# Altium schematic symbol library SCH - CONNECTORS - CLIFF - FCR7350B.SCHLIB: 1 symbol
Pins are listed as number, name and electrical type; pins without a type are passive.

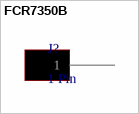
[diagram p0: symbol FCR7350B]

## FCR7350B
designator J?, comment 1 Pin
pins: 1